# Altium footprint library CONN - FP-S6B-ZR-SM4A-TF.PcbLib: 1 footprints
Each footprint in its own frame and in the unit in brackets; x right, y up, seen from the top. Pads: shape width x height; smd on the part's side, far side on the other; paste and mask are expansions set on the pad; w line width, h text height; cw(c..) or ccw(c..) is an arc to the next point about the centre after c.
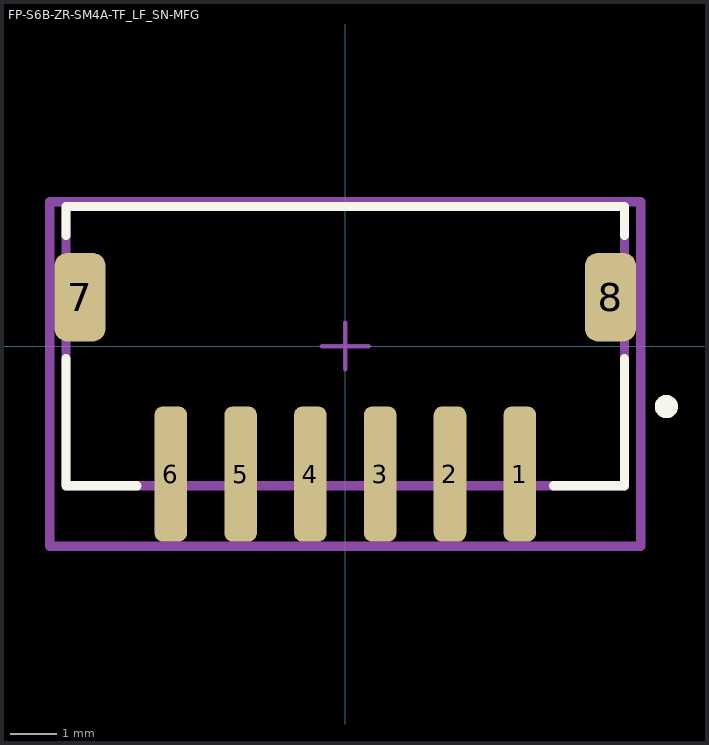
[diagram p0: the footprint, top view; thin cyan lines are the x and y axes]

## FP-S6B-ZR-SM4A-TF_LF_SN-MFG [mm]
pads (8):
  rrect50% 0.7x2.9 smd paste+0 mask+0: 1(3.75,-2.75) 2(2.25,-2.75) 3(0.75,-2.75) 4(-0.75,-2.75) 5(-2.25,-2.75) 6(-3.75,-2.75)
  rrect50% 1.1x1.9 smd paste+0 mask+0: 7(-5.7,1.05) 8(5.7,1.05)
Top Overlay:
  circle w0.25: c6.9,-1.3 r0.125
  lines w0.2: -6,-0.275 -6,-3 -4.475,-3 ; -6,2.375 -6,3 6,3 6,2.375 ; 4.475,-3 6,-3 6,-0.275
Top Courtyard:
  lines w0.2: -6.35,-4.3 6.35,-4.3 6.35,3.1 -6.35,3.1 -6.35,-4.3
Top Assembly:
  lines w0.2: -6.35,-4.3 6.35,-4.3 6.35,3.1 -6.35,3.1 -6.35,-4.3
  text ".Designator" at 0,-0.601 h1
Top 3D Body:
  lines w0.2: -6,-3 6,-3 6,3 -6,3 -6,-3
Top Component Center:
  lines w0.1: -0.5,0 0.5,0 ; 0,-0.5 0,0.5
3D body "Conn_JST_S6B-ZR-SM4A-TF_LF_SN_eec.STEP": height 0.25, standoff 0, extent -6.35,-4.3 6.35,3.1